# EAGLE library part MCP4822 (library anasoft)
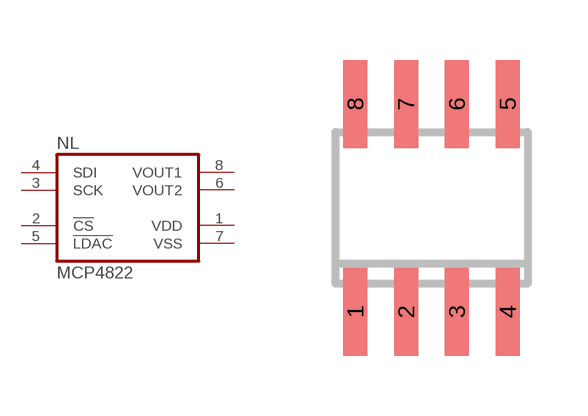
[diagram p8: symbol with the pads of SO-08; footprint SO-08]

Designator prefix NL

## MCP4822SN  [SO-08]
1  VDD  pwr
2  !CS  in
3  SCK  in
4  SDI  in
5  !LDAC  in
6  VOUT2  out
7  VSS  pwr
8  VOUT1  out

## Footprint SO-08 (pad centres in mm)
Small Outline Narrow Plastic Gull Wing 150-mil body, package type SN
smd 0.6 x 2.2: 1 -1.905,-2.6; 2 -0.635,-2.6; 3 0.635,-2.6; 4 1.905,-2.6; 5 1.905,2.6; 6 0.635,2.6; 7 -0.635,2.6; 8 -1.905,2.6